# EAGLE library part RPI-EXPANSION-26 (library 1484203861886-plan44)
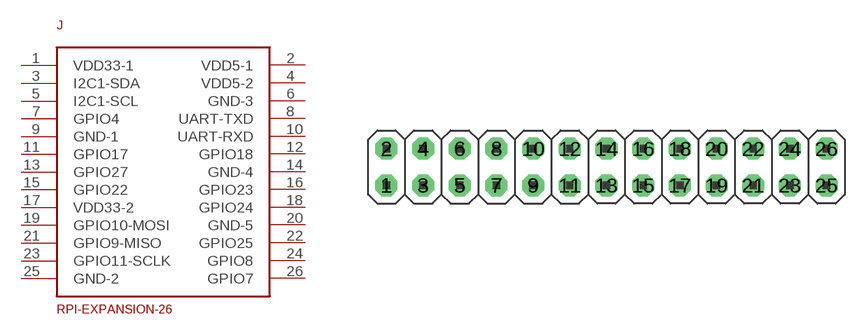
[diagram p1: symbol with the pads of 2X13; footprint 2X13]

Designator prefix J

## RPI-EXPANSION-26  [2X13]
1  VDD33-1
2  VDD5-1
3  I2C1-SDA
4  VDD5-2
5  I2C1-SCL
6  GND-3
7  GPIO4
8  UART-TXD
9  GND-1
10  UART-RXD
11  GPIO17
12  GPIO18
13  GPIO27
14  GND-4
15  GPIO22
16  GPIO23
17  VDD33-2
18  GPIO24
19  GPIO10-MOSI
20  GND-5
21  GPIO9-MISO
22  GPIO25
23  GPIO11-SCLK
24  GPIO8
25  GND-2
26  GPIO7

## Footprint 2X13 (pad centres in mm)
PIN HEADER
drill 1.016 octagon: 1 -15.24,-1.27; 2 -15.24,1.27; 3 -12.7,-1.27; 4 -12.7,1.27; 5 -10.16,-1.27; 6 -10.16,1.27; 7 -7.62,-1.27; 8 -7.62,1.27; 9 -5.08,-1.27; 10 -5.08,1.27; 11 -2.54,-1.27; 12 -2.54,1.27; 13 0,-1.27; 14 0,1.27; 15 2.54,-1.27; 16 2.54,1.27; 17 5.08,-1.27; 18 5.08,1.27; 19 7.62,-1.27; 20 7.62,1.27; 21 10.16,-1.27; 22 10.16,1.27; 23 12.7,-1.27; 24 12.7,1.27; 25 15.24,-1.27; 26 15.24,1.27